# Altium integrated library Atmel Memory EEPROM.IntLib: 165 symbols (part 2 of 5)
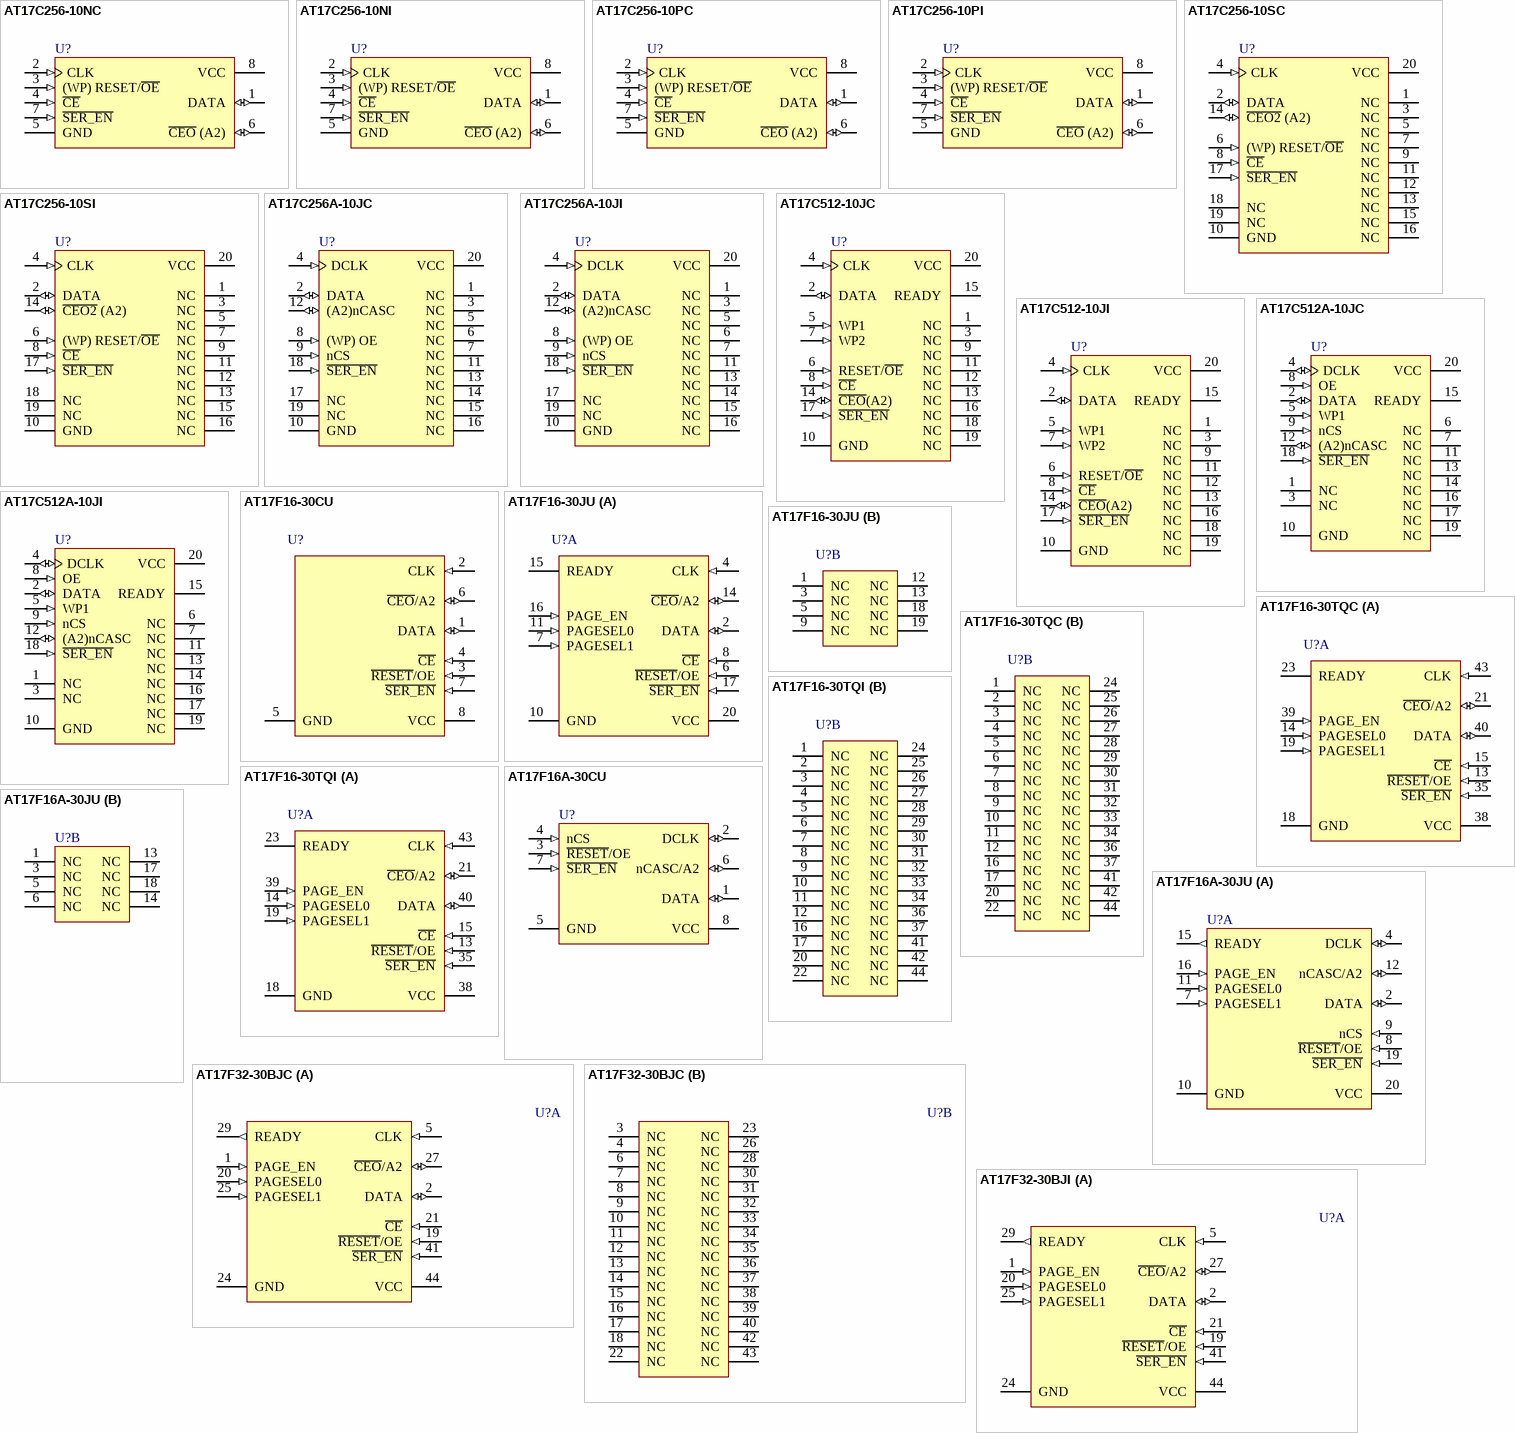
[diagram p9: symbols AT17C256-10NC to AT17F32-30BJI]

## AT17F16-30CU
designator U?
FPGA Configuration Flash Memory, 16-MBit Memory, 8-Pin LAP, Industrial Grade (-40°C to 85°C), Pb-Free; Published: 20-Sep-2010; DatasheetVersion: revF, Feb-2008; PackageVersion: revD, Feb-2008; PackageReference: 8CN4; Publisher: Altium Limited; PackageDescription: 8-Lead 6 x 6 x 1.04mm Body, 1.27mm Pitch Leadless Array Package (LAP); Supplier 1: Digi-Key; Supplier Part Number 1: AT17F16-30CU-ND; Supplier 2: Mouser; Supplier Part Number 2: 556-AT17F16-30CU; ComponentLink1Description: Manufacturer Link; ComponentLink1URL: http://www.atmel.com/products/Config; ComponentLink2Description: AT17F16 Datasheet; ComponentLink2URL: http://www.atmel.com/dyn/resources/prod_documents/doc3392.pdf; ComponentLink3Description: Atmel.com Home; ComponentLink3URL: http://www.atmel.com
footprint 8CN4 (SON, 8-Leads, Body 6x6 mm, Pitch 1.27mm)
pins: 1 DATA (io), 2 CLK (in), 3 ~{RESET}/OE (in), 4 ~{CE} (in), 5 GND (power), 6 ~{CEO}/A2 (io), 7 ~{SER_EN} (in), 8 VCC (power)

## AT17F16-30JU
designator U?
FPGA Configuration Flash Memory, 16-MBit Memory, 20-Pin PLCC, Industrial Grade (-40°C to 85°C), Pb-Free; Published: 20-Sep-2010; DatasheetVersion: revF, Feb-2008; PackageVersion: Aug-1999; PackageReference: 20J; Publisher: Altium Limited; PackageDescription: 20-Pin Leaded Chip Carrier 1.27 mm Pitch; Supplier 1: Digi-Key; Supplier Part Number 1: AT17F16-30JU-ND; Supplier 2: Mouser; Supplier Part Number 2: 556-AT17F16-30JU; Code_JEDEC: MS-018-AA; Code_IPC: PLCC-20; ComponentLink1Description: Manufacturer Link; ComponentLink1URL: http://www.atmel.com/products/Config; ComponentLink2Description: AT17F16 Datasheet; ComponentLink2URL: http://www.atmel.com/dyn/resources/prod_documents/doc3392.pdf; ComponentLink3Description: Atmel.com Home; ComponentLink3URL: http://www.atmel.com
footprint 20J_N (Leaded Chip Carrier, 20-Leads, Body 9x9mm, Pitch 1.27mm, IPC Medium Density)
footprint 20J_L (Leaded Chip Carrier, 20-Leads, Body 9x9mm, Pitch 1.27mm, IPC High Density)
footprint 20J_M (Leaded Chip Carrier, 20-Leads, Body 9x9mm, Pitch 1.27mm, IPC Low Density)
part A pins: 2 DATA (io), 4 CLK (in), 6 ~{RESET}/OE (in), 7 PAGESEL1 (in), 8 ~{CE} (in), 10 GND (power), 11 PAGESEL0 (in), 14 ~{CEO}/A2 (io), 15 READY (oc), 16 PAGE_EN (in), 17 ~{SER_EN} (in), 20 VCC (power)
part B pins: 1 NC, 3 NC, 5 NC, 9 NC, 12 NC, 13 NC, 18 NC, 19 NC

## AT17F16-30TQC
designator U?
FPGA Configuration Flash Memory, 16-MBit Memory, 44-Pin TQFP, Commercial Grade (0°C to 70°C); Published: 20-Sep-2010; DatasheetVersion: revF, Feb-2008; PackageVersion: rev.B, Oct-2001; PackageReference: 44A; Publisher: Altium Limited; PackageDescription: 44-Pin Plastic Thin Profile Quad Flat Pack, 10 x 10 x 1.0 mm Body, 0.8 mm Pitch (TQFP); Supplier 1: Digi-Key; Supplier Part Number 1: AT17F16-30TQC-ND; Supplier 2: Mouser; Supplier Part Number 2: 556-AT17F16-30TQC; ComponentLink1Description: Manufacturer Link; ComponentLink1URL: http://www.atmel.com/products/Config; ComponentLink2Description: AT17F16 Datasheet; ComponentLink2URL: http://www.atmel.com/dyn/resources/prod_documents/doc3392.pdf; ComponentLink3Description: Atmel.com Home; ComponentLink3URL: http://www.atmel.com
footprint 44A_N (Thin QFP, 44-Leads, Body 10x10mm, Pitch 0.8mm, IPC Medium Density)
footprint 44A_L (Thin QFP, 44-Leads, Body 10x10mm, Pitch 0.8mm, IPC High Density)
footprint 44A_M (Thin QFP, 44-Leads, Body 10x10mm, Pitch 0.8mm, IPC Low Density)
part A pins: 13 ~{RESET}/OE (in), 14 PAGESEL0 (in), 15 ~{CE} (in), 18 GND (power), 19 PAGESEL1 (in), 21 ~{CEO}/A2 (io), 23 READY (oc), 35 ~{SER_EN} (in), 38 VCC (power), 39 PAGE_EN (in), 40 DATA (io), 43 CLK (in)
part B pins: 1 NC, 2 NC, 3 NC, 4 NC, 5 NC, 6 NC, 7 NC, 8 NC, 9 NC, 10 NC, 11 NC, 12 NC, 16 NC, 17 NC, 20 NC, 22 NC, 24 NC, 25 NC, 26 NC, 27 NC, 28 NC, 29 NC, 30 NC, 31 NC, 32 NC, 33 NC, 34 NC, 36 NC, 37 NC, 41 NC, 42 NC, 44 NC

## AT17F16-30TQI
designator U?
FPGA Configuration Flash Memory, 16-MBit Memory, 44-Pin TQFP, Industrial Grade (-40°C to 85°C); Published: 20-Sep-2010; DatasheetVersion: revF, Feb-2008; PackageVersion: rev.B, Oct-2001; PackageReference: 44A; Publisher: Altium Limited; PackageDescription: 44-Pin Plastic Thin Profile Quad Flat Pack, 10 x 10 x 1.0 mm Body, 0.8 mm Pitch (TQFP); Supplier 1: Digi-Key; Supplier Part Number 1: AT17F16-30TQI-ND; Supplier 2: Mouser; Supplier Part Number 2: 556-AT17F16-30TQI; ComponentLink1Description: Manufacturer Link; ComponentLink1URL: http://www.atmel.com/products/Config; ComponentLink2Description: AT17F16 Datasheet; ComponentLink2URL: http://www.atmel.com/dyn/resources/prod_documents/doc3392.pdf; ComponentLink3Description: Atmel.com Home; ComponentLink3URL: http://www.atmel.com
footprint 44A_N (Thin QFP, 44-Leads, Body 10x10mm, Pitch 0.8mm, IPC Medium Density)
footprint 44A_L (Thin QFP, 44-Leads, Body 10x10mm, Pitch 0.8mm, IPC High Density)
footprint 44A_M (Thin QFP, 44-Leads, Body 10x10mm, Pitch 0.8mm, IPC Low Density)
part A pins: 13 ~{RESET}/OE (in), 14 PAGESEL0 (in), 15 ~{CE} (in), 18 GND (power), 19 PAGESEL1 (in), 21 ~{CEO}/A2 (io), 23 READY (oc), 35 ~{SER_EN} (in), 38 VCC (power), 39 PAGE_EN (in), 40 DATA (io), 43 CLK (in)
part B pins: 1 NC, 2 NC, 3 NC, 4 NC, 5 NC, 6 NC, 7 NC, 8 NC, 9 NC, 10 NC, 11 NC, 12 NC, 16 NC, 17 NC, 20 NC, 22 NC, 24 NC, 25 NC, 26 NC, 27 NC, 28 NC, 29 NC, 30 NC, 31 NC, 32 NC, 33 NC, 34 NC, 36 NC, 37 NC, 41 NC, 42 NC, 44 NC

## AT17F16A-30CU
designator U?
FPGA Configuration Flash Memory, 16-Mbit Memory, 8-Pin LAP, Industrial Grade (-40°C to 85°C); Published: 20-Sep-2010; DatasheetVersion: revE, Feb-2008; PackageVersion: revD, Feb-2008; PackageReference: 8CN4; Publisher: Altium Limited; PackageDescription: 8-Lead 6 x 6 x 1.04mm Body, 1.27mm Pitch Leadless Array Package (LAP); Supplier 1: Digi-Key; Supplier Part Number 1: AT17F16A-30CU-ND; Supplier 2: Mouser; Supplier Part Number 2: 556-AT17F16A-30CU; ComponentLink1Description: Manufacturer Link; ComponentLink1URL: http://www.atmel.com/products/Config; ComponentLink2Description: AT17F16A Datasheet; ComponentLink2URL: http://www.atmel.com/dyn/resources/prod_documents/doc3474.pdf; ComponentLink3Description: Atmel.com Home; ComponentLink3URL: http://www.atmel.com
footprint 8CN4 (SON, 8-Leads, Body 6x6 mm, Pitch 1.27mm)
pins: 1 DATA (io), 2 DCLK (io), 3 ~{RESET}/OE (in), 4 nCS (in), 5 GND (power), 6 nCASC/A2 (io), 7 ~{SER_EN} (in), 8 VCC (power)

## AT17F16A-30JU
designator U?
FPGA Configuration Flash Memory, 16-Mbit Memory, 20-Pin PLCC, Industrial Grade (-40°C to 85°C); Published: 20-Sep-2010; DatasheetVersion: revE, Feb-2008; PackageVersion: Aug-1999; PackageReference: 20J; Publisher: Altium Limited; PackageDescription: 20-Pin Leaded Chip Carrier 1.27 mm Pitch; Supplier 1: Digi-Key; Supplier Part Number 1: AT17F16A-30JU-ND; Supplier 2: Mouser; Supplier Part Number 2: 556-AT17F16A-30JU; Code_JEDEC: MS-018-AA; Code_IPC: PLCC-20; ComponentLink1Description: Manufacturer Link; ComponentLink1URL: http://www.atmel.com/products/Config; ComponentLink2Description: AT17F16A Datasheet; ComponentLink2URL: http://www.atmel.com/dyn/resources/prod_documents/doc3474.pdf; ComponentLink3Description: Atmel.com Home; ComponentLink3URL: http://www.atmel.com
footprint 20J_N (Leaded Chip Carrier, 20-Leads, Body 9x9mm, Pitch 1.27mm, IPC Medium Density)
footprint 20J_L (Leaded Chip Carrier, 20-Leads, Body 9x9mm, Pitch 1.27mm, IPC High Density)
footprint 20J_M (Leaded Chip Carrier, 20-Leads, Body 9x9mm, Pitch 1.27mm, IPC Low Density)
part A pins: 2 DATA (io), 4 DCLK (io), 7 PAGESEL1 (in), 8 ~{RESET}/OE (in), 9 nCS (in), 10 GND (power), 11 PAGESEL0 (in), 12 nCASC/A2 (io), 15 READY (out), 16 PAGE_EN (in), 19 ~{SER_EN} (in), 20 VCC (power)
part B pins: 1 NC, 3 NC, 5 NC, 6 NC, 13 NC, 14 NC, 17 NC, 18 NC

## AT17F32-30BJC
designator U?
FPGA Configuration Flash Memory, 32-MBit Memory, 44-Pin PLCC, Commercial Grade; Published: 20-Sep-2010; DatasheetVersion: revC, Jun-2005; PackageVersion: rev.B, Oct-2001; PackageReference: 44J; Publisher: Altium Limited; PackageDescription: 44-Pin Plastic J-Leaded Chip Carrier 1.27 mm Pitch (PLCC); Supplier 1: Digi-Key; Supplier Part Number 1: AT17F32-30BJC-ND; Supplier 2: Mouser; Supplier Part Number 2: 556-AT17F32-30BJC; Code_JEDEC: MS-018-AC; Code_IPC: PLCC-44; ComponentLink1Description: Manufacturer Link; ComponentLink1URL: http://www.atmel.com/products/Config; ComponentLink2Description: AT17F32 Datasheet; ComponentLink2URL: http://www.atmel.com/dyn/resources/prod_documents/doc3393.pdf; ComponentLink3Description: Atmel.com Home; ComponentLink3URL: http://www.atmel.com
footprint 44J_N (Leaded Chip Carrier, 44-Leads, Body 16.6x16.6mm, Pitch 1.27mm, IPC Medium Density)
footprint 44J_L (Leaded Chip Carrier, 44-Leads, Body 16.6x16.6mm, Pitch 1.27mm, IPC High Density)
footprint 44J_M (Leaded Chip Carrier, 44-Leads, Body 16.6x16.6mm, Pitch 1.27mm, IPC Low Density)
part A pins: 1 PAGE_EN (in), 2 DATA (io), 5 CLK (in), 19 ~{RESET}/OE (in), 20 PAGESEL0 (in), 21 ~{CE} (in), 24 GND (power), 25 PAGESEL1 (in), 27 ~{CEO}/A2 (io), 29 READY (out), 41 ~{SER_EN} (in), 44 VCC (power)
part B pins: 3 NC, 4 NC, 6 NC, 7 NC, 8 NC, 9 NC, 10 NC, 11 NC, 12 NC, 13 NC, 14 NC, 15 NC, 16 NC, 17 NC, 18 NC, 22 NC, 23 NC, 26 NC, 28 NC, 30 NC, 31 NC, 32 NC, 33 NC, 34 NC, 35 NC, 36 NC, 37 NC, 38 NC, 39 NC, 40 NC, 42 NC, 43 NC

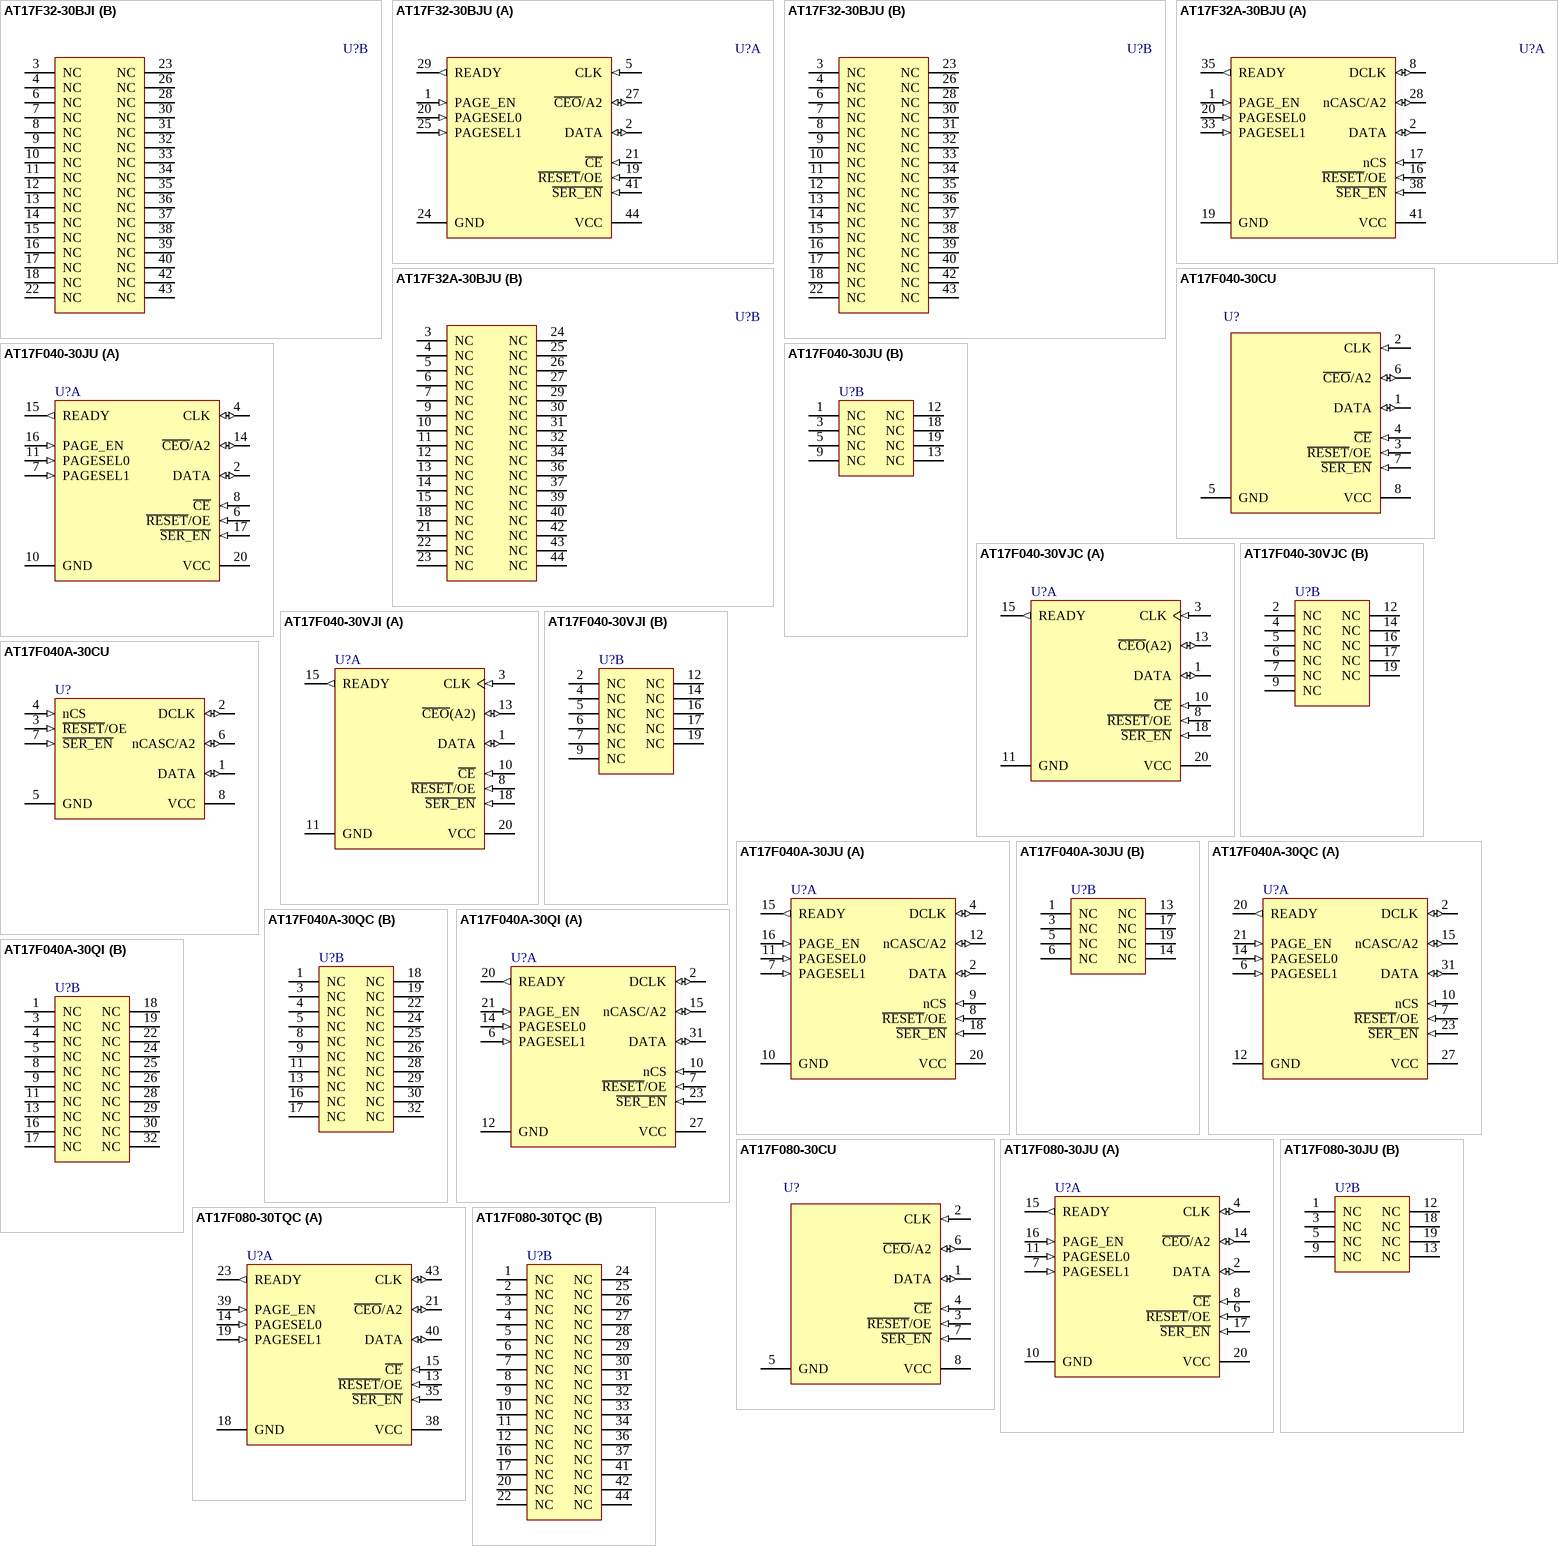
[diagram p2: symbols AT17F32-30BJI to AT17F080-30TQC]

## AT17F32-30BJI
designator U?
FPGA Configuration Flash Memory, 32-MBit Memory, 44-Pin PLCC, Industrial Grade; Published: 20-Sep-2010; DatasheetVersion: revC, Jun-2005; PackageVersion: rev.B, Oct-2001; PackageReference: 44J; Publisher: Altium Limited; PackageDescription: 44-Pin Plastic J-Leaded Chip Carrier 1.27 mm Pitch (PLCC); Supplier 1: Digi-Key; Supplier Part Number 1: AT17F32-30BJI-ND; Supplier 2: Mouser; Supplier Part Number 2: 556-AT17F32-30BJI; Code_JEDEC: MS-018-AC; Code_IPC: PLCC-44; ComponentLink1Description: Manufacturer Link; ComponentLink1URL: http://www.atmel.com/products/Config; ComponentLink2Description: AT17F32 Datasheet; ComponentLink2URL: http://www.atmel.com/dyn/resources/prod_documents/doc3393.pdf; ComponentLink3Description: Atmel.com Home; ComponentLink3URL: http://www.atmel.com
footprint 44J_N (Leaded Chip Carrier, 44-Leads, Body 16.6x16.6mm, Pitch 1.27mm, IPC Medium Density)
footprint 44J_L (Leaded Chip Carrier, 44-Leads, Body 16.6x16.6mm, Pitch 1.27mm, IPC High Density)
footprint 44J_M (Leaded Chip Carrier, 44-Leads, Body 16.6x16.6mm, Pitch 1.27mm, IPC Low Density)
part A pins: 1 PAGE_EN (in), 2 DATA (io), 5 CLK (in), 19 ~{RESET}/OE (in), 20 PAGESEL0 (in), 21 ~{CE} (in), 24 GND (power), 25 PAGESEL1 (in), 27 ~{CEO}/A2 (io), 29 READY (out), 41 ~{SER_EN} (in), 44 VCC (power)
part B pins: 3 NC, 4 NC, 6 NC, 7 NC, 8 NC, 9 NC, 10 NC, 11 NC, 12 NC, 13 NC, 14 NC, 15 NC, 16 NC, 17 NC, 18 NC, 22 NC, 23 NC, 26 NC, 28 NC, 30 NC, 31 NC, 32 NC, 33 NC, 34 NC, 35 NC, 36 NC, 37 NC, 38 NC, 39 NC, 40 NC, 42 NC, 43 NC

## AT17F32-30BJU
designator U?
FPGA Configuration Flash Memory, 32-MBit Memory, 44-Pin PLCC, LHF Industrial Grade; Published: 20-Sep-2010; DatasheetVersion: revC, Jun-2005; PackageVersion: rev.B, Oct-2001; PackageReference: 44J; Publisher: Altium Limited; PackageDescription: 44-Pin Plastic J-Leaded Chip Carrier 1.27 mm Pitch (PLCC); Supplier 1: Digi-Key; Supplier Part Number 1: AT17F32-30BJU-ND; Supplier 2: Mouser; Supplier Part Number 2: 556-AT17F32-30BJU; Code_JEDEC: MS-018-AC; Code_IPC: PLCC-44; ComponentLink1Description: Manufacturer Link; ComponentLink1URL: http://www.atmel.com/products/Config; ComponentLink2Description: AT17F32 Datasheet; ComponentLink2URL: http://www.atmel.com/dyn/resources/prod_documents/doc3393.pdf; ComponentLink3Description: Atmel.com Home; ComponentLink3URL: http://www.atmel.com
footprint 44J_N (Leaded Chip Carrier, 44-Leads, Body 16.6x16.6mm, Pitch 1.27mm, IPC Medium Density)
footprint 44J_L (Leaded Chip Carrier, 44-Leads, Body 16.6x16.6mm, Pitch 1.27mm, IPC High Density)
footprint 44J_M (Leaded Chip Carrier, 44-Leads, Body 16.6x16.6mm, Pitch 1.27mm, IPC Low Density)
part A pins: 1 PAGE_EN (in), 2 DATA (io), 5 CLK (in), 19 ~{RESET}/OE (in), 20 PAGESEL0 (in), 21 ~{CE} (in), 24 GND (power), 25 PAGESEL1 (in), 27 ~{CEO}/A2 (io), 29 READY (out), 41 ~{SER_EN} (in), 44 VCC (power)
part B pins: 3 NC, 4 NC, 6 NC, 7 NC, 8 NC, 9 NC, 10 NC, 11 NC, 12 NC, 13 NC, 14 NC, 15 NC, 16 NC, 17 NC, 18 NC, 22 NC, 23 NC, 26 NC, 28 NC, 30 NC, 31 NC, 32 NC, 33 NC, 34 NC, 35 NC, 36 NC, 37 NC, 38 NC, 39 NC, 40 NC, 42 NC, 43 NC

## AT17F32A-30BJU
designator U?
FPGA Configuration EEPROM 32-MBit Memory, 44-Pin PLCC, LHF Industrial Grade (-40°C to 85°C); Published: 20-Sep-2010; DatasheetVersion: revC, Aug-2007; PackageVersion: rev.B, Oct-2001; PackageReference: 44J; Publisher: Altium Limited; PackageDescription: 44-Pin Plastic J-Leaded Chip Carrier 1.27 mm Pitch (PLCC); Supplier 1: Digi-Key; Supplier Part Number 1: AT17F32A-30BJU-ND; Supplier 2: Mouser; Supplier Part Number 2: 556-AT17F32A-30BJU; Code_JEDEC: MS-018-AC; Code_IPC: PLCC-44; ComponentLink1Description: Manufacturer Link; ComponentLink1URL: http://www.atmel.com/products/Config; ComponentLink2Description: Datasheet; ComponentLink2URL: AT17F32A Datasheet http://www.atmel.com/dyn/resources/prod_documents/doc3489.pdf; ComponentLink3Description: Atmel.com Home; ComponentLink3URL: http://www.atmel.com
footprint 44J_N (Leaded Chip Carrier, 44-Leads, Body 16.6x16.6mm, Pitch 1.27mm, IPC Medium Density)
footprint 44J_L (Leaded Chip Carrier, 44-Leads, Body 16.6x16.6mm, Pitch 1.27mm, IPC High Density)
footprint 44J_M (Leaded Chip Carrier, 44-Leads, Body 16.6x16.6mm, Pitch 1.27mm, IPC Low Density)
part A pins: 1 PAGE_EN (in), 2 DATA (io), 8 DCLK (io), 16 ~{RESET}/OE (in), 17 nCS (in), 19 GND (power), 20 PAGESEL0 (in), 28 nCASC/A2 (io), 33 PAGESEL1 (in), 35 READY (out), 38 ~{SER_EN} (in), 41 VCC (power)
part B pins: 3 NC, 4 NC, 5 NC, 6 NC, 7 NC, 9 NC, 10 NC, 11 NC, 12 NC, 13 NC, 14 NC, 15 NC, 18 NC, 21 NC, 22 NC, 23 NC, 24 NC, 25 NC, 26 NC, 27 NC, 29 NC, 30 NC, 31 NC, 32 NC, 34 NC, 36 NC, 37 NC, 39 NC, 40 NC, 42 NC, 43 NC, 44 NC

## AT17F040-30CU
designator U?
FPGA Configuration Flash Memory, 4-MBit Memory, 8-Pin LAP, Industrial Grade (-40°C to 85°C), Pb-Free; Published: 20-Sep-2010; DatasheetVersion: revK, Feb-2008; PackageVersion: revD, Feb-2008; PackageReference: 8CN4; Publisher: Altium Limited; PackageDescription: 8-Lead 6 x 6 x 1.04mm Body, 1.27mm Pitch Leadless Array Package (LAP); Supplier 1: Digi-Key; Supplier Part Number 1: AT17F040-30CU-ND; Supplier 2: Mouser; Supplier Part Number 2: 556-AT17F040-30CU; ComponentLink1Description: Manufacturer Link; ComponentLink1URL: http://www.atmel.com/products/Config; ComponentLink2Description: AT17F040 Datasheet; ComponentLink2URL: http://www.atmel.com/dyn/resources/prod_documents/doc3039.pdf; ComponentLink3Description: Atmel.com Home; ComponentLink3URL: http://www.atmel.com
footprint 8CN4 (SON, 8-Leads, Body 6x6 mm, Pitch 1.27mm)
pins: 1 DATA (io), 2 CLK (in), 3 ~{RESET}/OE (in), 4 ~{CE} (in), 5 GND (power), 6 ~{CEO}/A2 (io), 7 ~{SER_EN} (in), 8 VCC (power)

## AT17F040-30JU
designator U?
FPGA Configuration Flash Memory, 4-MBit Memory, 20-Pin PLCC, Industrial Grade (-40°C to 85°C), Pb-Free; Published: 20-Sep-2010; DatasheetVersion: revK, Feb-2008; PackageVersion: Aug-1999; PackageReference: 20J; Publisher: Altium Limited; PackageDescription: 20-Pin Leaded Chip Carrier 1.27 mm Pitch; Supplier 1: Digi-Key; Supplier Part Number 1: AT17F040-30JU-ND; Supplier 2: Mouser; Supplier Part Number 2: 556-AT17F040-30JU; Code_JEDEC: MS-018-AA; Code_IPC: PLCC-20; ComponentLink1Description: Manufacturer Link; ComponentLink1URL: http://www.atmel.com/products/Config; ComponentLink2Description: AT17F040 Datasheet; ComponentLink2URL: http://www.atmel.com/dyn/resources/prod_documents/doc3039.pdf; ComponentLink3Description: Atmel.com Home; ComponentLink3URL: http://www.atmel.com
footprint 20J_N (Leaded Chip Carrier, 20-Leads, Body 9x9mm, Pitch 1.27mm, IPC Medium Density)
footprint 20J_L (Leaded Chip Carrier, 20-Leads, Body 9x9mm, Pitch 1.27mm, IPC High Density)
footprint 20J_M (Leaded Chip Carrier, 20-Leads, Body 9x9mm, Pitch 1.27mm, IPC Low Density)
part A pins: 2 DATA (io), 4 CLK (io), 6 ~{RESET}/OE (in), 7 PAGESEL1 (in), 8 ~{CE} (in), 10 GND (power), 11 PAGESEL0 (in), 14 ~{CEO}/A2 (io), 15 READY (out), 16 PAGE_EN (in), 17 ~{SER_EN} (in), 20 VCC (power)
part B pins: 1 NC, 3 NC, 5 NC, 9 NC, 12 NC, 13 NC, 18 NC, 19 NC

## AT17F040-30VJC
designator U?
FPGA Configuration Flash Memory, 4-MBit Memory, 20-Pin PLCC, Commercial Grade (0°C to 70°C); Published: 20-Sep-2010; DatasheetVersion: revK, Feb-2008; PackageVersion: Aug-1999; PackageReference: 20J; Publisher: Altium Limited; PackageDescription: 20-Pin Leaded Chip Carrier 1.27 mm Pitch; Supplier 1: Digi-Key; Supplier Part Number 1: AT17F040-30VJC-ND; Supplier 2: Mouser; Supplier Part Number 2: 556-AT17F040-30VJC; Code_JEDEC: MS-018-AA; Code_IPC: PLCC-20; ComponentLink1Description: Manufacturer Link; ComponentLink1URL: http://www.atmel.com/products/Config; ComponentLink2Description: AT17F040 Datasheet; ComponentLink2URL: http://www.atmel.com/dyn/resources/prod_documents/doc3039.pdf; ComponentLink3Description: Atmel.com Home; ComponentLink3URL: http://www.atmel.com
footprint 20J_N (Leaded Chip Carrier, 20-Leads, Body 9x9mm, Pitch 1.27mm, IPC Medium Density)
footprint 20J_L (Leaded Chip Carrier, 20-Leads, Body 9x9mm, Pitch 1.27mm, IPC High Density)
footprint 20J_M (Leaded Chip Carrier, 20-Leads, Body 9x9mm, Pitch 1.27mm, IPC Low Density)
part A pins: 1 DATA (io), 3 CLK (in), 8 ~{RESET}/OE (in), 10 ~{CE} (in), 11 GND (power), 13 ~{CEO}(A2) (io), 15 READY (out), 18 ~{SER_EN} (in), 20 VCC (power)
part B pins: 2 NC, 4 NC, 5 NC, 6 NC, 7 NC, 9 NC, 12 NC, 14 NC, 16 NC, 17 NC, 19 NC

## AT17F040-30VJI
designator U?
FPGA Configuration Flash Memory, 4-MBit Memory, 20-Pin PLCC, Industrial Grade (-40°C to 85°C); Published: 20-Sep-2010; DatasheetVersion: revK, Feb-2008; PackageVersion: Aug-1999; PackageReference: 20J; Publisher: Altium Limited; PackageDescription: 20-Pin Leaded Chip Carrier 1.27 mm Pitch; Supplier 1: Digi-Key; Supplier Part Number 1: AT17F040-30VJI-ND; Supplier 2: Mouser; Supplier Part Number 2: 556-AT17F040-30VJI; Code_JEDEC: MS-018-AA; Code_IPC: PLCC-20; ComponentLink1Description: Manufacturer Link; ComponentLink1URL: http://www.atmel.com/products/Config; ComponentLink2Description: AT17F040 Datasheet; ComponentLink2URL: http://www.atmel.com/dyn/resources/prod_documents/doc3039.pdf; ComponentLink3Description: Atmel.com Home; ComponentLink3URL: http://www.atmel.com
footprint 20J_N (Leaded Chip Carrier, 20-Leads, Body 9x9mm, Pitch 1.27mm, IPC Medium Density)
footprint 20J_L (Leaded Chip Carrier, 20-Leads, Body 9x9mm, Pitch 1.27mm, IPC High Density)
footprint 20J_M (Leaded Chip Carrier, 20-Leads, Body 9x9mm, Pitch 1.27mm, IPC Low Density)
part A pins: 1 DATA (io), 3 CLK (in), 8 ~{RESET}/OE (in), 10 ~{CE} (in), 11 GND (power), 13 ~{CEO}(A2) (io), 15 READY (out), 18 ~{SER_EN} (in), 20 VCC (power)
part B pins: 2 NC, 4 NC, 5 NC, 6 NC, 7 NC, 9 NC, 12 NC, 14 NC, 16 NC, 17 NC, 19 NC

## AT17F040A-30CU
designator U?
FPGA Configuration Flash Memory, 4-MBit Memory, 8-Pin LAP, Industrial Grade (-40° C to 85° C), Pb-Free; Published: 20-Sep-2010; DatasheetVersion: revD, Feb-2008; PackageVersion: revD, Feb-2008; PackageReference: 8CN4; Publisher: Altium Limited; PackageDescription: 8-Lead 6 x 6 x 1.04mm Body, 1.27mm Pitch Leadless Array Package (LAP); Supplier 1: Digi-Key; Supplier Part Number 1: AT17F040A-30CU-ND; Supplier 2: Mouser; Supplier Part Number 2: 556-AT17F040A-30CU; ComponentLink1Description: Manufacturer Link; ComponentLink1URL: http://www.atmel.com/products/Config; ComponentLink2Description: AT17F040A Datasheet; ComponentLink2URL: http://www.atmel.com/dyn/resources/prod_documents/doc2823.pdf; ComponentLink3Description: Atmel.com Home; ComponentLink3URL: http://www.atmel.com
footprint 8CN4 (SON, 8-Leads, Body 6x6 mm, Pitch 1.27mm)
pins: 1 DATA (io), 2 DCLK (io), 3 ~{RESET}/OE (in), 4 nCS (in), 5 GND (power), 6 nCASC/A2 (io), 7 ~{SER_EN} (in), 8 VCC (power)

## AT17F040A-30JU
designator U?
FPGA Configuration Flash Memory, 4-MBit Memory, 20-Pin PLCC, Industrial Grade (-40° C to 85° C), Pb-Free; Published: 20-Sep-2010; DatasheetVersion: revD, Feb-2008; PackageVersion: Aug-1999; PackageReference: 20J; Publisher: Altium Limited; PackageDescription: 20-Pin Leaded Chip Carrier 1.27 mm Pitch; Supplier 1: Digi-Key; Supplier Part Number 1: AT17F040A-30JU-ND; Supplier 2: Mouser; Supplier Part Number 2: 556-AT17F040A-30JU; Code_JEDEC: MS-018-AA; Code_IPC: PLCC-20; ComponentLink1Description: Manufacturer Link; ComponentLink1URL: http://www.atmel.com/products/Config; ComponentLink2Description: AT17F040A Datasheet; ComponentLink2URL: http://www.atmel.com/dyn/resources/prod_documents/doc2823.pdf; ComponentLink3Description: Atmel.com Home; ComponentLink3URL: http://www.atmel.com
footprint 20J_N (Leaded Chip Carrier, 20-Leads, Body 9x9mm, Pitch 1.27mm, IPC Medium Density)
footprint 20J_L (Leaded Chip Carrier, 20-Leads, Body 9x9mm, Pitch 1.27mm, IPC High Density)
footprint 20J_M (Leaded Chip Carrier, 20-Leads, Body 9x9mm, Pitch 1.27mm, IPC Low Density)
part A pins: 2 DATA (io), 4 DCLK (io), 7 PAGESEL1 (in), 8 ~{RESET}/OE (in), 9 nCS (in), 10 GND (power), 11 PAGESEL0 (in), 12 nCASC/A2 (io), 15 READY (out), 16 PAGE_EN (in), 18 ~{SER_EN} (in), 20 VCC (power)
part B pins: 1 NC, 3 NC, 5 NC, 6 NC, 13 NC, 14 NC, 17 NC, 19 NC

## AT17F040A-30QC
designator U?
FPGA Configuration Flash Memory, 4-MBit Memory, 32-Pin TQFP, Commercial Grade (0°C to 70°C); Published: 20-Sep-2010; DatasheetVersion: revD, Feb-2008; PackageVersion: revB, Oct-2001; PackageReference: 32A; Publisher: Altium Limited; PackageDescription: 32-Lead, 7x7x1.0 mm Body, 0.8mm Lead Pitch, Thin Profile Plastic Quad Flat Package (TQFP); Supplier 1: Digi-Key; Supplier Part Number 1: AT17F040A-30QC-ND; Supplier 2: Mouser; Supplier Part Number 2: 556-AT17F040A-30QC; Code_JEDEC: MS-026-ABA; ComponentLink1Description: Manufacturer Link; ComponentLink1URL: http://www.atmel.com/products/Config; ComponentLink2Description: AT17F040A Datasheet; ComponentLink2URL: http://www.atmel.com/dyn/resources/prod_documents/doc2823.pdf; ComponentLink3Description: Atmel.com Home; ComponentLink3URL: http://www.atmel.com
footprint 32A_N (Thin QFP, 32-Leads, Body 7x7mm, Pitch 0.8mm, IPC Medium Density)
footprint 32A_L (Thin QFP, 32-Leads, Body 7x7mm, Pitch 0.8mm, IPC High Density)
footprint 32A_M (Thin QFP, 32-Leads, Body 7x7mm, Pitch 0.8mm, IPC Low Density)
part A pins: 2 DCLK (io), 6 PAGESEL1 (in), 7 ~{RESET}/OE (in), 10 nCS (in), 12 GND (power), 14 PAGESEL0 (in), 15 nCASC/A2 (io), 20 READY (out), 21 PAGE_EN (in), 23 ~{SER_EN} (in), 27 VCC (power), 31 DATA (io)
part B pins: 1 NC, 3 NC, 4 NC, 5 NC, 8 NC, 9 NC, 11 NC, 13 NC, 16 NC, 17 NC, 18 NC, 19 NC, 22 NC, 24 NC, 25 NC, 26 NC, 28 NC, 29 NC, 30 NC, 32 NC

## AT17F040A-30QI
designator U?
FPGA Configuration Flash Memory, 4-MBit Memory, 32-Pin TQFP, Industrial Grade (-40° C to 85° C); Published: 20-Sep-2010; DatasheetVersion: revD, Feb-2008; PackageVersion: revB, Oct-2001; PackageReference: 32A; Publisher: Altium Limited; PackageDescription: 32-Lead, 7x7x1.0 mm Body, 0.8mm Lead Pitch, Thin Profile Plastic Quad Flat Package (TQFP); Supplier 1: Digi-Key; Supplier Part Number 1: AT17F040A-30QI-ND; Supplier 2: Mouser; Supplier Part Number 2: 556-AT17F040A-30QI; Code_JEDEC: MS-026-ABA; ComponentLink1Description: Manufacturer Link; ComponentLink1URL: http://www.atmel.com/products/Config; ComponentLink2Description: AT17F040A Datasheet; ComponentLink2URL: http://www.atmel.com/dyn/resources/prod_documents/doc2823.pdf; ComponentLink3Description: Atmel.com Home; ComponentLink3URL: http://www.atmel.com
footprint 32A_N (Thin QFP, 32-Leads, Body 7x7mm, Pitch 0.8mm, IPC Medium Density)
footprint 32A_L (Thin QFP, 32-Leads, Body 7x7mm, Pitch 0.8mm, IPC High Density)
footprint 32A_M (Thin QFP, 32-Leads, Body 7x7mm, Pitch 0.8mm, IPC Low Density)
part A pins: 2 DCLK (io), 6 PAGESEL1 (in), 7 ~{RESET}/OE (in), 10 nCS (in), 12 GND (power), 14 PAGESEL0 (in), 15 nCASC/A2 (io), 20 READY (out), 21 PAGE_EN (in), 23 ~{SER_EN} (in), 27 VCC (power), 31 DATA (io)
part B pins: 1 NC, 3 NC, 4 NC, 5 NC, 8 NC, 9 NC, 11 NC, 13 NC, 16 NC, 17 NC, 18 NC, 19 NC, 22 NC, 24 NC, 25 NC, 26 NC, 28 NC, 29 NC, 30 NC, 32 NC

## AT17F080-30CU
designator U?
FPGA Configuration Flash Memory, 8-MBit Memory, 8-Pin LAP, Industrial Grade (-40°C to 85°C), Pb-Free; Published: 20-Sep-2010; DatasheetVersion: revK, Feb-2008; PackageVersion: revD, Feb-2008; PackageReference: 8CN4; Publisher: Altium Limited; PackageDescription: 8-Lead 6 x 6 x 1.04mm Body, 1.27mm Pitch Leadless Array Package (LAP); Supplier 1: Digi-Key; Supplier Part Number 1: AT17F080-30CU-ND; Supplier 2: Mouser; Supplier Part Number 2: 556-AT17F080-30CU; ComponentLink1Description: Manufacturer Link; ComponentLink1URL: http://www.atmel.com/products/Config; ComponentLink2Description: AT17F080 Datasheet; ComponentLink2URL: http://www.atmel.com/dyn/resources/prod_documents/doc3039.pdf; ComponentLink3Description: Atmel.com Home; ComponentLink3URL: http://www.atmel.com
footprint 8CN4 (SON, 8-Leads, Body 6x6 mm, Pitch 1.27mm)
pins: 1 DATA (io), 2 CLK (in), 3 ~{RESET}/OE (in), 4 ~{CE} (in), 5 GND (power), 6 ~{CEO}/A2 (io), 7 ~{SER_EN} (in), 8 VCC (power)

## AT17F080-30JU
designator U?
FPGA Configuration Flash Memory, 8-MBit Memory, 20-Pin PLCC, Industrial Grade (-40°C to 85°C), Pb-Free; Published: 20-Sep-2010; DatasheetVersion: revK, Feb-2008; PackageVersion: Aug-1999; PackageReference: 20J; Publisher: Altium Limited; PackageDescription: 20-Pin Leaded Chip Carrier 1.27 mm Pitch; Supplier 1: Digi-Key; Supplier Part Number 1: AT17F080-30JU-ND; Supplier 2: Mouser; Supplier Part Number 2: 556-AT17F080-30JU; Code_JEDEC: MS-018-AA; Code_IPC: PLCC-20; ComponentLink1Description: Manufacturer Link; ComponentLink1URL: http://www.atmel.com/products/Config; ComponentLink2Description: AT17F080 Datasheet; ComponentLink2URL: http://www.atmel.com/dyn/resources/prod_documents/doc3039.pdf; ComponentLink3Description: Atmel.com Home; ComponentLink3URL: http://www.atmel.com
footprint 20J_N (Leaded Chip Carrier, 20-Leads, Body 9x9mm, Pitch 1.27mm, IPC Medium Density)
footprint 20J_L (Leaded Chip Carrier, 20-Leads, Body 9x9mm, Pitch 1.27mm, IPC High Density)
footprint 20J_M (Leaded Chip Carrier, 20-Leads, Body 9x9mm, Pitch 1.27mm, IPC Low Density)
part A pins: 2 DATA (io), 4 CLK (io), 6 ~{RESET}/OE (in), 7 PAGESEL1 (in), 8 ~{CE} (in), 10 GND (power), 11 PAGESEL0 (in), 14 ~{CEO}/A2 (io), 15 READY (out), 16 PAGE_EN (in), 17 ~{SER_EN} (in), 20 VCC (power)
part B pins: 1 NC, 3 NC, 5 NC, 9 NC, 12 NC, 13 NC, 18 NC, 19 NC

## AT17F080-30TQC
designator U?
FPGA Configuration Flash Memory, 8-MBit Memory, 44-Pin TQFP, Commercial Grade (0°C to 70°C); Published: 20-Sep-2010; DatasheetVersion: revK, Feb-2008; PackageVersion: rev.B, Oct-2001; PackageReference: 44A; Publisher: Altium Limited; PackageDescription: 44-Pin Plastic Thin Profile Quad Flat Pack, 10 x 10 x 1.0 mm Body, 0.8 mm Pitch (TQFP); Supplier 1: Digi-Key; Supplier Part Number 1: AT17F080-30TQC-ND; Supplier 2: Mouser; Supplier Part Number 2: 556-AT17F080-30TQC; ComponentLink1Description: Manufacturer Link; ComponentLink1URL: http://www.atmel.com/products/Config; ComponentLink2Description: AT17F080 Datasheet; ComponentLink2URL: http://www.atmel.com/dyn/resources/prod_documents/doc3039.pdf; ComponentLink3Description: Atmel.com Home; ComponentLink3URL: http://www.atmel.com
footprint 44A_N (Thin QFP, 44-Leads, Body 10x10mm, Pitch 0.8mm, IPC Medium Density)
footprint 44A_L (Thin QFP, 44-Leads, Body 10x10mm, Pitch 0.8mm, IPC High Density)
footprint 44A_M (Thin QFP, 44-Leads, Body 10x10mm, Pitch 0.8mm, IPC Low Density)
part A pins: 13 ~{RESET}/OE (in), 14 PAGESEL0 (in), 15 ~{CE} (in), 18 GND (power), 19 PAGESEL1 (in), 21 ~{CEO}/A2 (io), 23 READY (out), 35 ~{SER_EN} (in), 38 VCC (power), 39 PAGE_EN (in), 40 DATA (io), 43 CLK (io)
part B pins: 1 NC, 2 NC, 3 NC, 4 NC, 5 NC, 6 NC, 7 NC, 8 NC, 9 NC, 10 NC, 11 NC, 12 NC, 16 NC, 17 NC, 20 NC, 22 NC, 24 NC, 25 NC, 26 NC, 27 NC, 28 NC, 29 NC, 30 NC, 31 NC, 32 NC, 33 NC, 34 NC, 36 NC, 37 NC, 41 NC, 42 NC, 44 NC

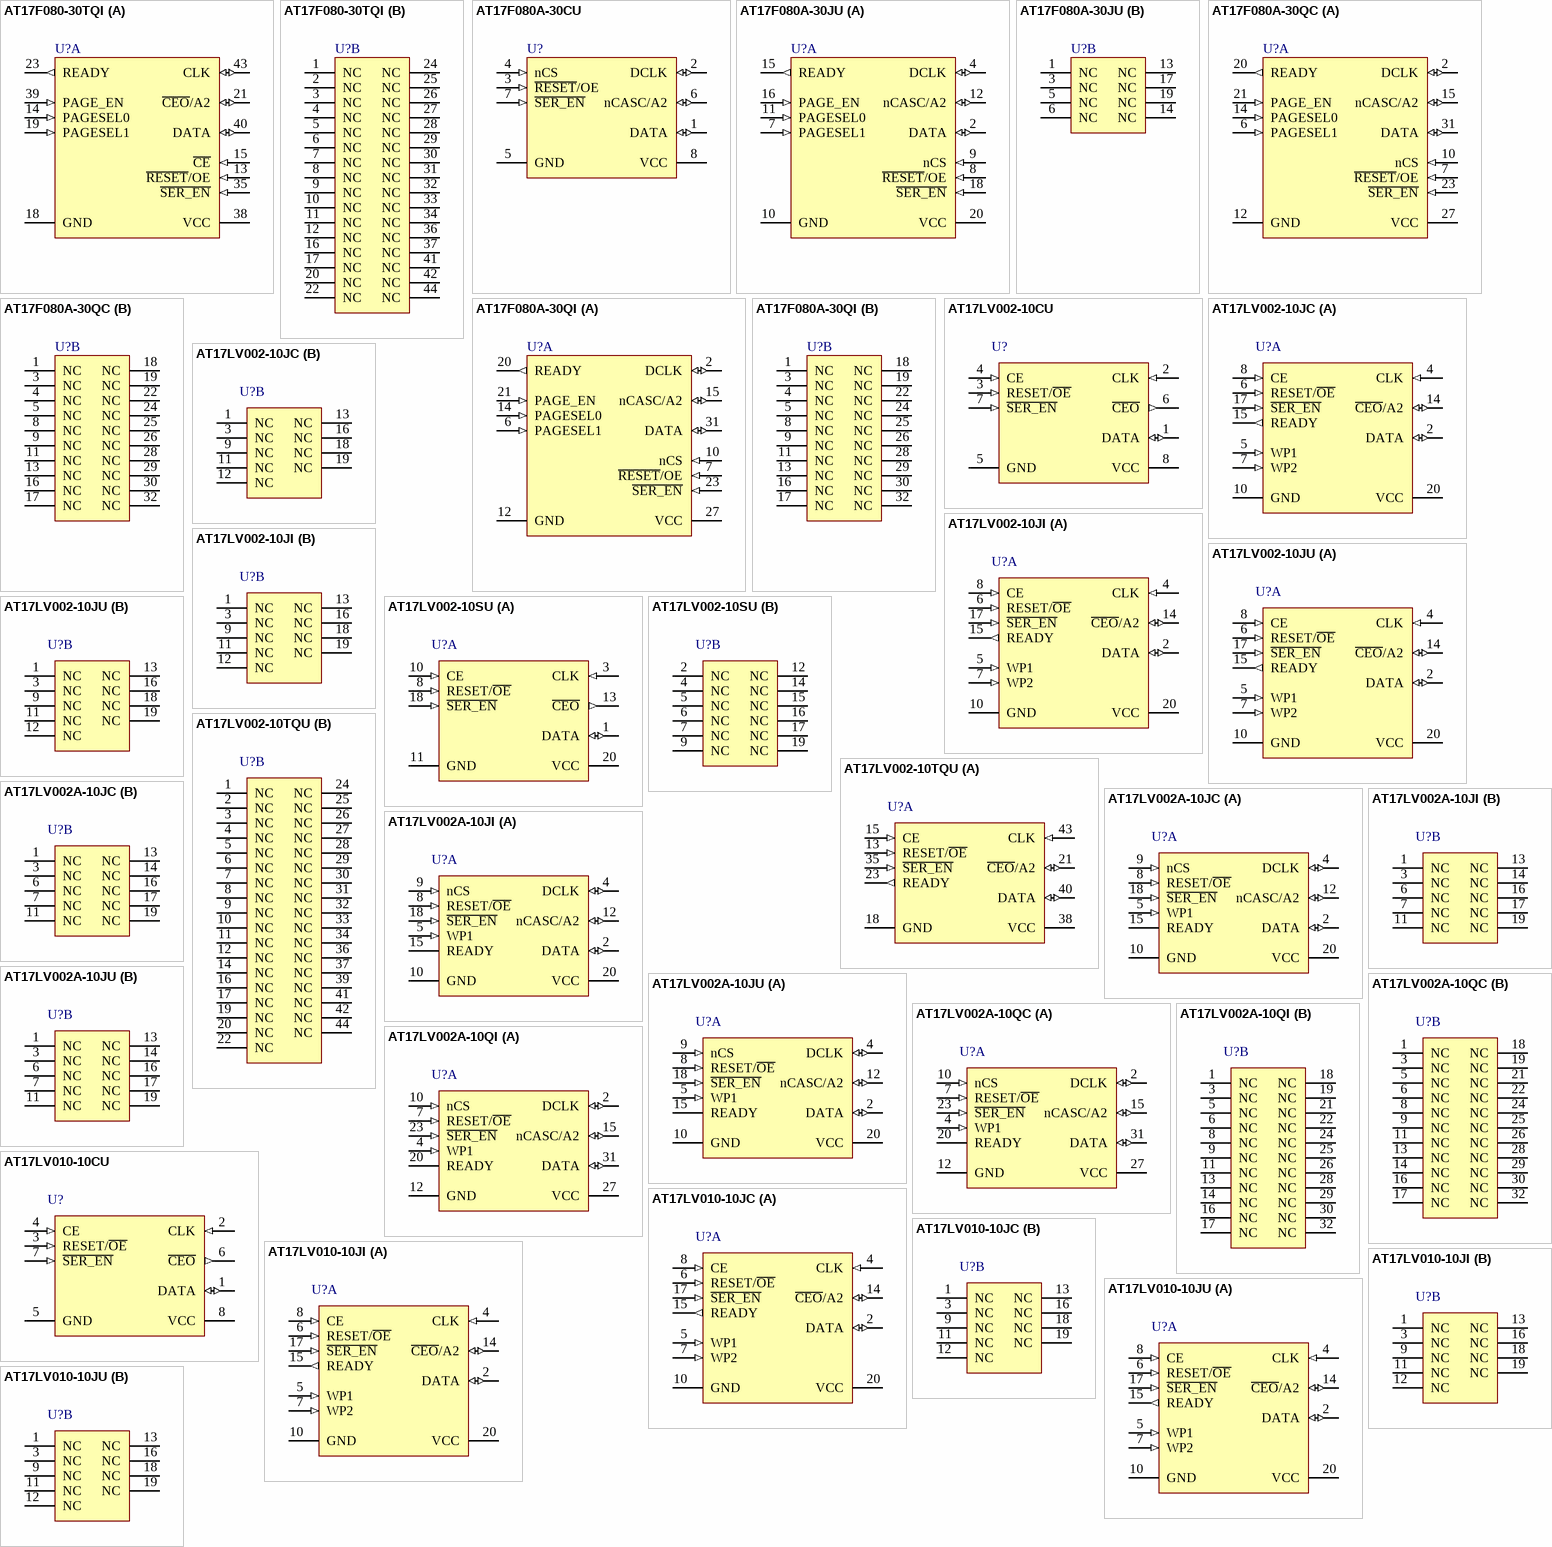
[diagram p3: symbols AT17F080-30TQI to AT17LV010-10JU]

## AT17F080-30TQI
designator U?
FPGA Configuration Flash Memory, 8-MBit Memory, 44-Pin TQFP, Industrial Grade (-40°C to 85°C); Published: 20-Sep-2010; DatasheetVersion: revK, Feb-2008; PackageVersion: rev.B, Oct-2001; PackageReference: 44A; Publisher: Altium Limited; PackageDescription: 44-Pin Plastic Thin Profile Quad Flat Pack, 10 x 10 x 1.0 mm Body, 0.8 mm Pitch (TQFP); Supplier 1: Digi-Key; Supplier Part Number 1: AT17F080-30TQI-ND; Supplier 2: Mouser; Supplier Part Number 2: 556-AT17F080-30TQI; ComponentLink1Description: Manufacturer Link; ComponentLink1URL: http://www.atmel.com/products/Config; ComponentLink2Description: AT17F080 Datasheet; ComponentLink2URL: http://www.atmel.com/dyn/resources/prod_documents/doc3039.pdf; ComponentLink3Description: Atmel.com Home; ComponentLink3URL: http://www.atmel.com
footprint 44A_N (Thin QFP, 44-Leads, Body 10x10mm, Pitch 0.8mm, IPC Medium Density)
footprint 44A_L (Thin QFP, 44-Leads, Body 10x10mm, Pitch 0.8mm, IPC High Density)
footprint 44A_M (Thin QFP, 44-Leads, Body 10x10mm, Pitch 0.8mm, IPC Low Density)
part A pins: 13 ~{RESET}/OE (in), 14 PAGESEL0 (in), 15 ~{CE} (in), 18 GND (power), 19 PAGESEL1 (in), 21 ~{CEO}/A2 (io), 23 READY (out), 35 ~{SER_EN} (in), 38 VCC (power), 39 PAGE_EN (in), 40 DATA (io), 43 CLK (io)
part B pins: 1 NC, 2 NC, 3 NC, 4 NC, 5 NC, 6 NC, 7 NC, 8 NC, 9 NC, 10 NC, 11 NC, 12 NC, 16 NC, 17 NC, 20 NC, 22 NC, 24 NC, 25 NC, 26 NC, 27 NC, 28 NC, 29 NC, 30 NC, 31 NC, 32 NC, 33 NC, 34 NC, 36 NC, 37 NC, 41 NC, 42 NC, 44 NC

## AT17F080A-30CU
designator U?
FPGA Configuration Flash Memory, 8-MBit Memory, 8-Pin LAP, Industrial Grade (-40° C to 85° C), Pb-Free; Published: 20-Sep-2010; DatasheetVersion: revD, Feb-2008; PackageVersion: revD, Feb-2008; PackageReference: 8CN4; Publisher: Altium Limited; PackageDescription: 8-Lead 6 x 6 x 1.04mm Body, 1.27mm Pitch Leadless Array Package (LAP); Supplier 1: Digi-Key; Supplier Part Number 1: AT17F080A-30CU-ND; Supplier 2: Mouser; Supplier Part Number 2: 556-AT17F080A-30CU; ComponentLink1Description: Manufacturer Link; ComponentLink1URL: http://www.atmel.com/products/Config; ComponentLink2Description: AT17F080A Datasheet; ComponentLink2URL: http://www.atmel.com/dyn/resources/prod_documents/doc2823.pdf; ComponentLink3Description: Atmel.com Home; ComponentLink3URL: http://www.atmel.com
footprint 8CN4 (SON, 8-Leads, Body 6x6 mm, Pitch 1.27mm)
pins: 1 DATA (io), 2 DCLK (io), 3 ~{RESET}/OE (in), 4 nCS (in), 5 GND (power), 6 nCASC/A2 (io), 7 ~{SER_EN} (in), 8 VCC (power)

## AT17F080A-30JU
designator U?
FPGA Configuration Flash Memory, 8-MBit Memory, 20-Pin PLCC, Industrial Grade (-40° C to 85° C), Pb-Free; Published: 20-Sep-2010; DatasheetVersion: revD, Feb-2008; PackageVersion: Aug-1999; PackageReference: 20J; Publisher: Altium Limited; PackageDescription: 20-Pin Leaded Chip Carrier 1.27 mm Pitch; Supplier 1: Digi-Key; Supplier Part Number 1: AT17F080A-30JU-ND; Supplier 2: Mouser; Supplier Part Number 2: 556-AT17F080A-30JU; Code_JEDEC: MS-018-AA; Code_IPC: PLCC-20; ComponentLink1Description: Manufacturer Link; ComponentLink1URL: http://www.atmel.com/products/Config; ComponentLink2Description: AT17F080A Datasheet; ComponentLink2URL: http://www.atmel.com/dyn/resources/prod_documents/doc2823.pdf; ComponentLink3Description: Atmel.com Home; ComponentLink3URL: http://www.atmel.com
footprint 20J_N (Leaded Chip Carrier, 20-Leads, Body 9x9mm, Pitch 1.27mm, IPC Medium Density)
footprint 20J_L (Leaded Chip Carrier, 20-Leads, Body 9x9mm, Pitch 1.27mm, IPC High Density)
footprint 20J_M (Leaded Chip Carrier, 20-Leads, Body 9x9mm, Pitch 1.27mm, IPC Low Density)
part A pins: 2 DATA (io), 4 DCLK (io), 7 PAGESEL1 (in), 8 ~{RESET}/OE (in), 9 nCS (in), 10 GND (power), 11 PAGESEL0 (in), 12 nCASC/A2 (io), 15 READY (out), 16 PAGE_EN (in), 18 ~{SER_EN} (in), 20 VCC (power)
part B pins: 1 NC, 3 NC, 5 NC, 6 NC, 13 NC, 14 NC, 17 NC, 19 NC

## AT17F080A-30QC
designator U?
FPGA Configuration Flash Memory, 8-MBit Memory, 32-Pin TQFP, Commercial Grade (0°C to 70°C); Published: 20-Sep-2010; DatasheetVersion: revD, Feb-2008; PackageVersion: revB, Oct-2001; PackageReference: 32A; Publisher: Altium Limited; PackageDescription: 32-Lead, 7x7x1.0 mm Body, 0.8mm Lead Pitch, Thin Profile Plastic Quad Flat Package (TQFP); Supplier 1: Digi-Key; Supplier Part Number 1: AT17F080A-30QC-ND; Supplier 2: Mouser; Supplier Part Number 2: 556-AT17F080A-30QC; Code_JEDEC: MS-026-ABA; ComponentLink1Description: Manufacturer Link; ComponentLink1URL: http://www.atmel.com/products/Config; ComponentLink2Description: AT17F080A Datasheet; ComponentLink2URL: http://www.atmel.com/dyn/resources/prod_documents/doc2823.pdf; ComponentLink3Description: Atmel.com Home; ComponentLink3URL: http://www.atmel.com
footprint 32A_N (Thin QFP, 32-Leads, Body 7x7mm, Pitch 0.8mm, IPC Medium Density)
footprint 32A_L (Thin QFP, 32-Leads, Body 7x7mm, Pitch 0.8mm, IPC High Density)
footprint 32A_M (Thin QFP, 32-Leads, Body 7x7mm, Pitch 0.8mm, IPC Low Density)
part A pins: 2 DCLK (io), 6 PAGESEL1 (in), 7 ~{RESET}/OE (in), 10 nCS (in), 12 GND (power), 14 PAGESEL0 (in), 15 nCASC/A2 (io), 20 READY (out), 21 PAGE_EN (in), 23 ~{SER_EN} (in), 27 VCC (power), 31 DATA (io)
part B pins: 1 NC, 3 NC, 4 NC, 5 NC, 8 NC, 9 NC, 11 NC, 13 NC, 16 NC, 17 NC, 18 NC, 19 NC, 22 NC, 24 NC, 25 NC, 26 NC, 28 NC, 29 NC, 30 NC, 32 NC

## AT17F080A-30QI
designator U?
FPGA Configuration Flash Memory, 8-MBit Memory, 32-Pin TQFP, Industrial Grade (-40° C to 85° C); Published: 20-Sep-2010; DatasheetVersion: revD, Feb-2008; PackageVersion: revB, Oct-2001; PackageReference: 32A; Publisher: Altium Limited; PackageDescription: 32-Lead, 7x7x1.0 mm Body, 0.8mm Lead Pitch, Thin Profile Plastic Quad Flat Package (TQFP); Supplier 1: Digi-Key; Supplier Part Number 1: AT17F080A-30QI-ND; Supplier 2: Mouser; Supplier Part Number 2: 556-AT17F080A-30QI; Code_JEDEC: MS-026-ABA; ComponentLink1Description: Manufacturer Link; ComponentLink1URL: http://www.atmel.com/products/Config; ComponentLink2Description: AT17F080A Datasheet; ComponentLink2URL: http://www.atmel.com/dyn/resources/prod_documents/doc2823.pdf; ComponentLink3Description: Atmel.com Home; ComponentLink3URL: http://www.atmel.com
footprint 32A_N (Thin QFP, 32-Leads, Body 7x7mm, Pitch 0.8mm, IPC Medium Density)
footprint 32A_L (Thin QFP, 32-Leads, Body 7x7mm, Pitch 0.8mm, IPC High Density)
footprint 32A_M (Thin QFP, 32-Leads, Body 7x7mm, Pitch 0.8mm, IPC Low Density)
part A pins: 2 DCLK (io), 6 PAGESEL1 (in), 7 ~{RESET}/OE (in), 10 nCS (in), 12 GND (power), 14 PAGESEL0 (in), 15 nCASC/A2 (io), 20 READY (out), 21 PAGE_EN (in), 23 ~{SER_EN} (in), 27 VCC (power), 31 DATA (io)
part B pins: 1 NC, 3 NC, 4 NC, 5 NC, 8 NC, 9 NC, 11 NC, 13 NC, 16 NC, 17 NC, 18 NC, 19 NC, 22 NC, 24 NC, 25 NC, 26 NC, 28 NC, 29 NC, 30 NC, 32 NC

## AT17LV002-10CU
designator U?
FPGA Configuration EEPROM Memory, 2-MBit Memory, 8-Pin LAP, Industrial Grade (-40°C to 85°C), Pb-Free; Published: 20-Sep-2010; DatasheetVersion: revI, Feb-2008; PackageVersion: revD, Feb-2008; PackageReference: 8CN4; Publisher: Altium Limited; PackageDescription: 8-Lead 6 x 6 x 1.04mm Body, 1.27mm Pitch Leadless Array Package (LAP); Supplier 1: Digi-Key; Supplier Part Number 1: AT17LV002-10CU-ND; Supplier 2: Mouser; Supplier Part Number 2: 556-AT17LV00210CU; ComponentLink1Description: Manufacturer Link; ComponentLink1URL: http://www.atmel.com/products/Config; ComponentLink2Description: AT17LV002 Datasheet; ComponentLink2URL: http://www.atmel.com/dyn/resources/prod_documents/doc2321.pdf; ComponentLink3Description: Atmel.com Home; ComponentLink3URL: http://www.atmel.com
footprint 8CN4 (SON, 8-Leads, Body 6x6 mm, Pitch 1.27mm)
pins: 1 DATA (io), 2 CLK (in), 3 RESET/~{OE} (in), 4 CE (in), 5 GND (power), 6 ~{CEO} (out), 7 ~{SER_EN} (in), 8 VCC (power)

## AT17LV002-10JC
designator U?
FPGA Configuration EEPROM Memory, 2-MBit Memory, 20-Pin PLCC, Commercial Grade (0°C to 70°C); Published: 20-Sep-2010; DatasheetVersion: revI, Feb-2008; PackageVersion: Aug-1999; PackageReference: 20J; Publisher: Altium Limited; PackageDescription: 20-Pin Leaded Chip Carrier 1.27 mm Pitch; Supplier 1: Digi-Key; Supplier Part Number 1: AT17LV002-10JC-ND; Supplier 2: Mouser; Supplier Part Number 2: 556-AT17LV002-10JC; Code_JEDEC: MS-018-AA; Code_IPC: PLCC-20; ComponentLink1Description: Manufacturer Link; ComponentLink1URL: http://www.atmel.com/products/Config; ComponentLink2Description: AT17LV002 Datasheet; ComponentLink2URL: http://www.atmel.com/dyn/resources/prod_documents/doc2321.pdf; ComponentLink3Description: Atmel.com Home; ComponentLink3URL: http://www.atmel.com
footprint 20J_N (Leaded Chip Carrier, 20-Leads, Body 9x9mm, Pitch 1.27mm, IPC Medium Density)
footprint 20J_L (Leaded Chip Carrier, 20-Leads, Body 9x9mm, Pitch 1.27mm, IPC High Density)
footprint 20J_M (Leaded Chip Carrier, 20-Leads, Body 9x9mm, Pitch 1.27mm, IPC Low Density)
part A pins: 2 DATA (io), 4 CLK (in), 5 WP1 (in), 6 RESET/~{OE} (in), 7 WP2 (in), 8 CE (in), 10 GND (power), 14 ~{CEO}/A2 (io), 15 READY (out), 17 ~{SER_EN} (in), 20 VCC (power)
part B pins: 1 NC, 3 NC, 9 NC, 11 NC, 12 NC, 13 NC, 16 NC, 18 NC, 19 NC

## AT17LV002-10JI
designator U?
FPGA Configuration EEPROM Memory, 2-MBit Memory, 20-Pin PLCC, Industrial Grade (-40°C to 85°C); Published: 20-Sep-2010; DatasheetVersion: revI, Feb-2008; PackageVersion: Aug-1999; PackageReference: 20J; Publisher: Altium Limited; PackageDescription: 20-Pin Leaded Chip Carrier 1.27 mm Pitch; Supplier 1: Digi-Key; Supplier Part Number 1: AT17LV002-10JI-ND; Supplier 2: Mouser; Supplier Part Number 2: 556-AT17LV002-10JI; Code_JEDEC: MS-018-AA; Code_IPC: PLCC-20; ComponentLink1Description: Manufacturer Link; ComponentLink1URL: http://www.atmel.com/products/Config; ComponentLink2Description: AT17LV002 Datasheet; ComponentLink2URL: http://www.atmel.com/dyn/resources/prod_documents/doc2321.pdf; ComponentLink3Description: Atmel.com Home; ComponentLink3URL: http://www.atmel.com
footprint 20J_N (Leaded Chip Carrier, 20-Leads, Body 9x9mm, Pitch 1.27mm, IPC Medium Density)
footprint 20J_L (Leaded Chip Carrier, 20-Leads, Body 9x9mm, Pitch 1.27mm, IPC High Density)
footprint 20J_M (Leaded Chip Carrier, 20-Leads, Body 9x9mm, Pitch 1.27mm, IPC Low Density)
part A pins: 2 DATA (io), 4 CLK (in), 5 WP1 (in), 6 RESET/~{OE} (in), 7 WP2 (in), 8 CE (in), 10 GND (power), 14 ~{CEO}/A2 (io), 15 READY (out), 17 ~{SER_EN} (in), 20 VCC (power)
part B pins: 1 NC, 3 NC, 9 NC, 11 NC, 12 NC, 13 NC, 16 NC, 18 NC, 19 NC

## AT17LV002-10JU
designator U?
FPGA Configuration EEPROM Memory, 2-MBit Memory, 20-Pin PLCC, Industrial Grade (-40°C to 85°C), Pb-Free; Published: 20-Sep-2010; DatasheetVersion: revI, Feb-2008; PackageVersion: Aug-1999; PackageReference: 20J; Publisher: Altium Limited; PackageDescription: 20-Pin Leaded Chip Carrier 1.27 mm Pitch; Supplier 1: Digi-Key; Supplier Part Number 1: AT17LV002-10JU-ND; Supplier 2: Mouser; Supplier Part Number 2: 556-AT17LV00210JU; Code_JEDEC: MS-018-AA; Code_IPC: PLCC-20; ComponentLink1Description: Manufacturer Link; ComponentLink1URL: http://www.atmel.com/products/Config; ComponentLink2Description: AT17LV002 Datasheet; ComponentLink2URL: http://www.atmel.com/dyn/resources/prod_documents/doc2321.pdf; ComponentLink3Description: Atmel.com Home; ComponentLink3URL: http://www.atmel.com
footprint 20J_N (Leaded Chip Carrier, 20-Leads, Body 9x9mm, Pitch 1.27mm, IPC Medium Density)
footprint 20J_L (Leaded Chip Carrier, 20-Leads, Body 9x9mm, Pitch 1.27mm, IPC High Density)
footprint 20J_M (Leaded Chip Carrier, 20-Leads, Body 9x9mm, Pitch 1.27mm, IPC Low Density)
part A pins: 2 DATA (io), 4 CLK (in), 5 WP1 (in), 6 RESET/~{OE} (in), 7 WP2 (in), 8 CE (in), 10 GND (power), 14 ~{CEO}/A2 (io), 15 READY (out), 17 ~{SER_EN} (in), 20 VCC (power)
part B pins: 1 NC, 3 NC, 9 NC, 11 NC, 12 NC, 13 NC, 16 NC, 18 NC, 19 NC

## AT17LV002-10SU
designator U?
FPGA Configuration EEPROM Memory, 2-MBit Memory, 20-Pin SOIC, Industrial Grade (-40°C to 85°C), Pb-Free; Published: 20-Sep-2010; DatasheetVersion: revI, Feb-2008; PackageVersion: revB, Nov-2006; PackageReference: 20S2; Publisher: Altium Limited; PackageDescription: 20-lead, 0.300" Wide Body, Plastic Gull Wing Small Outline Package (SOIC); Supplier 1: Digi-Key; Supplier Part Number 1: AT17LV002-10SU-ND; Supplier 2: Mouser; Supplier Part Number 2: 556-AT17LV00210SU; Code_JEDEC: MS-013-AC; Code_IPC: SOIC127P1030-20; ComponentLink1Description: Manufacturer Link; ComponentLink1URL: http://www.atmel.com/products/Config; ComponentLink2Description: AT17LV002 Datasheet; ComponentLink2URL: http://www.atmel.com/dyn/resources/prod_documents/doc2321.pdf; ComponentLink3Description: Atmel.com Home; ComponentLink3URL: http://www.atmel.com
footprint 20S2_N (SOIC, 20-Leads, Body 12.8x7.5mm, Pitch 1.27mm, IPC Medium Density)
footprint 20S2_L (SOIC, 20-Leads, Body 12.8x7.5mm, Pitch 1.27mm, IPC High Density)
footprint 20S2_M (SOIC, 20-Leads, Body 12.8x7.5mm, Pitch 1.27mm, IPC Low Density)
part A pins: 1 DATA (io), 3 CLK (in), 8 RESET/~{OE} (in), 10 CE (in), 11 GND (power), 13 ~{CEO} (out), 18 ~{SER_EN} (in), 20 VCC (power)
part B pins: 2 NC, 4 NC, 5 NC, 6 NC, 7 NC, 9 NC, 12 NC, 14 NC, 15 NC, 16 NC, 17 NC, 19 NC

## AT17LV002-10TQU
designator U?
FPGA Configuration EEPROM Memory, 2-MBit Memory, 44-Pin TQFP, Industrial Grade (-40°C to 85°C), Pb-Free; Published: 20-Sep-2010; DatasheetVersion: revI, Feb-2008; PackageVersion: rev.B, Oct-2001; PackageReference: 44A; Publisher: Altium Limited; PackageDescription: 44-Pin Plastic Thin Profile Quad Flat Pack, 10 x 10 x 1.0 mm Body, 0.8 mm Pitch (TQFP); Supplier 1: Digi-Key; Supplier Part Number 1: AT17LV002-10TQU-ND; Supplier 2: Mouser; Supplier Part Number 2: 556-AT17LV002-10TQU; ComponentLink1Description: Manufacturer Link; ComponentLink1URL: http://www.atmel.com/products/Config; ComponentLink2Description: AT17LV002 Datasheet; ComponentLink2URL: http://www.atmel.com/dyn/resources/prod_documents/doc2321.pdf; ComponentLink3Description: Atmel.com Home; ComponentLink3URL: http://www.atmel.com
footprint 44A_N (Thin QFP, 44-Leads, Body 10x10mm, Pitch 0.8mm, IPC Medium Density)
footprint 44A_L (Thin QFP, 44-Leads, Body 10x10mm, Pitch 0.8mm, IPC High Density)
footprint 44A_M (Thin QFP, 44-Leads, Body 10x10mm, Pitch 0.8mm, IPC Low Density)
part A pins: 13 RESET/~{OE} (in), 15 CE (in), 18 GND (power), 21 ~{CEO}/A2 (io), 23 READY (out), 35 ~{SER_EN} (in), 38 VCC (power), 40 DATA (io), 43 CLK (in)
part B pins: 1 NC, 2 NC, 3 NC, 4 NC, 5 NC, 6 NC, 7 NC, 8 NC, 9 NC, 10 NC, 11 NC, 12 NC, 14 NC, 16 NC, 17 NC, 19 NC, 20 NC, 22 NC, 24 NC, 25 NC, 26 NC, 27 NC, 28 NC, 29 NC, 30 NC, 31 NC, 32 NC, 33 NC, 34 NC, 36 NC, 37 NC, 39 NC, 41 NC, 42 NC, 44 NC

## AT17LV002A-10JC
designator U?
FPGA Configuration EEPROM Memory, 2-MBit Memory, 20-Pin PLCC, Commercial Grade (0°C to 70°C); Published: 20-Sep-2010; DatasheetVersion: revG, Mar-2006; PackageVersion: Aug-1999; PackageReference: 20J; Publisher: Altium Limited; PackageDescription: 20-Pin Leaded Chip Carrier 1.27 mm Pitch; Supplier 1: Digi-Key; Supplier Part Number 1: AT17LV002A-10JC-ND; Supplier 2: Mouser; Supplier Part Number 2: 556-AT17LV002A10JC; Code_JEDEC: MS-018-AA; Code_IPC: PLCC-20; ComponentLink1Description: Manufacturer Link; ComponentLink1URL: http://www.atmel.com/products/Config; ComponentLink2Description: AT17LV002A Datasheet; ComponentLink2URL: http://www.atmel.com/dyn/resources/prod_documents/doc2322.pdf; ComponentLink3Description: Atmel.com Home; ComponentLink3URL: http://www.atmel.com
footprint 20J_N (Leaded Chip Carrier, 20-Leads, Body 9x9mm, Pitch 1.27mm, IPC Medium Density)
footprint 20J_L (Leaded Chip Carrier, 20-Leads, Body 9x9mm, Pitch 1.27mm, IPC High Density)
footprint 20J_M (Leaded Chip Carrier, 20-Leads, Body 9x9mm, Pitch 1.27mm, IPC Low Density)
part A pins: 2 DATA (io), 4 DCLK (io), 5 WP1 (in), 8 RESET/~{OE} (in), 9 nCS (in), 10 GND (power), 12 nCASC/A2 (io), 15 READY (oc), 18 ~{SER_EN} (in), 20 VCC (power)
part B pins: 1 NC, 3 NC, 6 NC, 7 NC, 11 NC, 13 NC, 14 NC, 16 NC, 17 NC, 19 NC

## AT17LV002A-10JI
designator U?
FPGA Configuration EEPROM Memory, 2-MBit Memory, 20-Pin PLCC, Industrial Grade (-40°C to 85°C); Published: 20-Sep-2010; DatasheetVersion: revG, Mar-2006; PackageVersion: Aug-1999; PackageReference: 20J; Publisher: Altium Limited; PackageDescription: 20-Pin Leaded Chip Carrier 1.27 mm Pitch; Supplier 1: Digi-Key; Supplier Part Number 1: AT17LV002A-10JI-ND; Supplier 2: Mouser; Supplier Part Number 2: 556-AT17LV002A10JI; Code_JEDEC: MS-018-AA; Code_IPC: PLCC-20; ComponentLink1Description: Manufacturer Link; ComponentLink1URL: http://www.atmel.com/products/Config; ComponentLink2Description: AT17LV002A Datasheet; ComponentLink2URL: http://www.atmel.com/dyn/resources/prod_documents/doc2322.pdf; ComponentLink3Description: Atmel.com Home; ComponentLink3URL: http://www.atmel.com
footprint 20J_N (Leaded Chip Carrier, 20-Leads, Body 9x9mm, Pitch 1.27mm, IPC Medium Density)
footprint 20J_L (Leaded Chip Carrier, 20-Leads, Body 9x9mm, Pitch 1.27mm, IPC High Density)
footprint 20J_M (Leaded Chip Carrier, 20-Leads, Body 9x9mm, Pitch 1.27mm, IPC Low Density)
part A pins: 2 DATA (io), 4 DCLK (io), 5 WP1 (in), 8 RESET/~{OE} (in), 9 nCS (in), 10 GND (power), 12 nCASC/A2 (io), 15 READY (oc), 18 ~{SER_EN} (in), 20 VCC (power)
part B pins: 1 NC, 3 NC, 6 NC, 7 NC, 11 NC, 13 NC, 14 NC, 16 NC, 17 NC, 19 NC

## AT17LV002A-10JU
designator U?
FPGA Configuration EEPROM Memory, 2-MBit Memory, 20-Pin PLCC, Industrial Grade (-40°C to 85°C), Pb-Free; Published: 20-Sep-2010; DatasheetVersion: revG, Mar-2006; PackageVersion: Aug-1999; PackageReference: 20J; Publisher: Altium Limited; PackageDescription: 20-Pin Leaded Chip Carrier 1.27 mm Pitch; Supplier 1: Digi-Key; Supplier Part Number 1: AT17LV002A-10JU-ND; Supplier 2: Mouser; Supplier Part Number 2: 556-AT17LV002A10JU; Code_JEDEC: MS-018-AA; Code_IPC: PLCC-20; ComponentLink1Description: Manufacturer Link; ComponentLink1URL: http://www.atmel.com/products/Config; ComponentLink2Description: AT17LV002A Datasheet; ComponentLink2URL: http://www.atmel.com/dyn/resources/prod_documents/doc2322.pdf; ComponentLink3Description: Atmel.com Home; ComponentLink3URL: http://www.atmel.com
footprint 20J_N (Leaded Chip Carrier, 20-Leads, Body 9x9mm, Pitch 1.27mm, IPC Medium Density)
footprint 20J_L (Leaded Chip Carrier, 20-Leads, Body 9x9mm, Pitch 1.27mm, IPC High Density)
footprint 20J_M (Leaded Chip Carrier, 20-Leads, Body 9x9mm, Pitch 1.27mm, IPC Low Density)
part A pins: 2 DATA (io), 4 DCLK (io), 5 WP1 (in), 8 RESET/~{OE} (in), 9 nCS (in), 10 GND (power), 12 nCASC/A2 (io), 15 READY (oc), 18 ~{SER_EN} (in), 20 VCC (power)
part B pins: 1 NC, 3 NC, 6 NC, 7 NC, 11 NC, 13 NC, 14 NC, 16 NC, 17 NC, 19 NC

## AT17LV002A-10QC
designator U?
FPGA Configuration EEPROM Memory, 2-MBit Memory, 32-Pin TQFP, Commercial Grade (0°C to 70°C); Published: 20-Sep-2010; DatasheetVersion: revG, Mar-2006; PackageVersion: revB, Oct-2001; PackageReference: 32A; Publisher: Altium Limited; PackageDescription: 32-Lead, 7x7x1.0 mm Body, 0.8mm Lead Pitch, Thin Profile Plastic Quad Flat Package (TQFP); Supplier 1: Digi-Key; Supplier Part Number 1: AT17LV002A-10QC-ND; Supplier 2: Mouser; Supplier Part Number 2: 556-AT17LV002A10QC; Code_JEDEC: MS-026-ABA; ComponentLink1Description: Manufacturer Link; ComponentLink1URL: http://www.atmel.com/products/Config; ComponentLink2Description: AT17LV002A Datasheet; ComponentLink2URL: http://www.atmel.com/dyn/resources/prod_documents/doc2322.pdf; ComponentLink3Description: Atmel.com Home; ComponentLink3URL: http://www.atmel.com
footprint 32A_N (Thin QFP, 32-Leads, Body 7x7mm, Pitch 0.8mm, IPC Medium Density)
footprint 32A_L (Thin QFP, 32-Leads, Body 7x7mm, Pitch 0.8mm, IPC High Density)
footprint 32A_M (Thin QFP, 32-Leads, Body 7x7mm, Pitch 0.8mm, IPC Low Density)
part A pins: 2 DCLK (io), 4 WP1 (in), 7 RESET/~{OE} (in), 10 nCS (in), 12 GND (power), 15 nCASC/A2 (io), 20 READY (oc), 23 ~{SER_EN} (in), 27 VCC (power), 31 DATA (io)
part B pins: 1 NC, 3 NC, 5 NC, 6 NC, 8 NC, 9 NC, 11 NC, 13 NC, 14 NC, 16 NC, 17 NC, 18 NC, 19 NC, 21 NC, 22 NC, 24 NC, 25 NC, 26 NC, 28 NC, 29 NC, 30 NC, 32 NC

## AT17LV002A-10QI
designator U?
FPGA Configuration EEPROM Memory, 2-MBit Memory, 32-Pin TQFP, Industrial Grade (-40°C to 85°C); Published: 20-Sep-2010; DatasheetVersion: revG, Mar-2006; PackageVersion: revB, Oct-2001; PackageReference: 32A; Publisher: Altium Limited; PackageDescription: 32-Lead, 7x7x1.0 mm Body, 0.8mm Lead Pitch, Thin Profile Plastic Quad Flat Package (TQFP); Supplier 1: Digi-Key; Supplier Part Number 1: AT17LV002A-10QI-ND; Supplier 2: Mouser; Supplier Part Number 2: 556-AT17LV002A-10QI; Code_JEDEC: MS-026-ABA; ComponentLink1Description: Manufacturer Link; ComponentLink1URL: http://www.atmel.com/products/Config; ComponentLink2Description: AT17LV002A Datasheet; ComponentLink2URL: http://www.atmel.com/dyn/resources/prod_documents/doc2322.pdf; ComponentLink3Description: Atmel.com Home; ComponentLink3URL: http://www.atmel.com
footprint 32A_N (Thin QFP, 32-Leads, Body 7x7mm, Pitch 0.8mm, IPC Medium Density)
footprint 32A_L (Thin QFP, 32-Leads, Body 7x7mm, Pitch 0.8mm, IPC High Density)
footprint 32A_M (Thin QFP, 32-Leads, Body 7x7mm, Pitch 0.8mm, IPC Low Density)
part A pins: 2 DCLK (io), 4 WP1 (in), 7 RESET/~{OE} (in), 10 nCS (in), 12 GND (power), 15 nCASC/A2 (io), 20 READY (oc), 23 ~{SER_EN} (in), 27 VCC (power), 31 DATA (io)
part B pins: 1 NC, 3 NC, 5 NC, 6 NC, 8 NC, 9 NC, 11 NC, 13 NC, 14 NC, 16 NC, 17 NC, 18 NC, 19 NC, 21 NC, 22 NC, 24 NC, 25 NC, 26 NC, 28 NC, 29 NC, 30 NC, 32 NC